# Altium footprint library M3.PcbLib: 3 footprints
Each footprint in its own frame and in the unit in brackets; x right, y up, seen from the top. Pads: shape width x height; smd on the part's side, far side on the other; paste and mask are expansions set on the pad; w line width, h text height; cw(c..) or ccw(c..) is an arc to the next point about the centre after c.
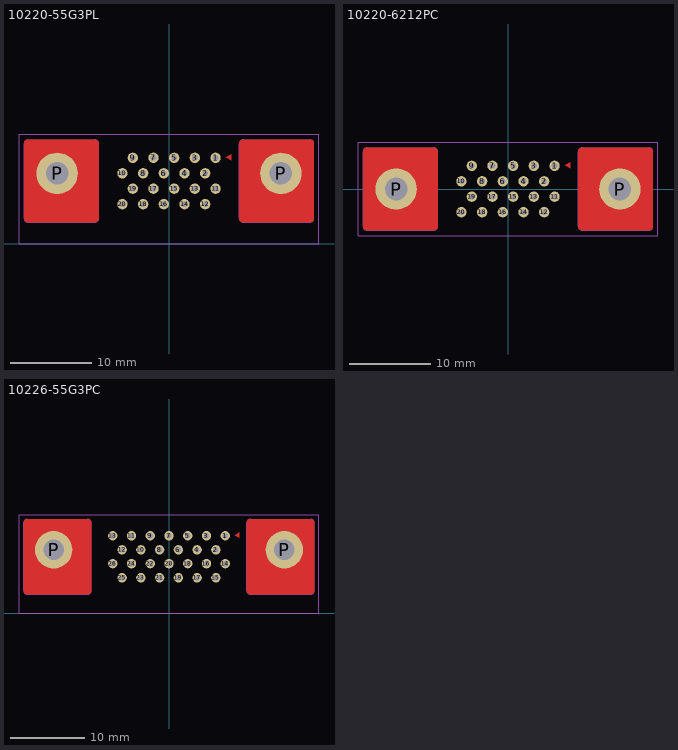
[diagram p0: the footprints below, top view; thin cyan lines are the x and y axes]

## 10220-55G3PL [mil]
pads (22):
  round 50 hole 28: 1(225,414.5) 2(175,339.5) 3(125,414.5) 4(75,339.5) 5(25,414.5) 6(-25,339.5) 7(-75,414.5) 8(-125,339.5) 9(-175,414.5) 10(-225,339.5) 11(225,265.5) 12(175,190.5) 13(125,265.5) 14(75,190.5) 15(25,265.5) 16(-25,190.5) 17(-75,265.5) 18(-125,190.5) 19(-175,265.5) 20(-225,190.5)
  round 200 hole 110: P(-540.5,339.5) P(540.5,339.5)
Top Layer:
  region: -360,102.5 -356.02,102.5 -348.67,105.54 -343.04,111.17 -340,118.52 -340,122.5 -340,482.5 -340,486.48 -343.04,493.83 -348.67,499.46 -356.02,502.5 -360,502.5 -680,502.5 -683.98,502.5 -691.33,499.46 -696.96,493.83 -700,486.48 -700,482.5 -700,122.5 -700,118.52 -696.96,111.17 -691.33,105.54 -683.98,102.5 -680,102.5
  region: 360,502.5 356.02,502.5 348.67,499.46 343.04,493.83 340,486.48 340,482.5 340,122.5 340,118.52 343.04,111.17 348.67,105.54 356.02,102.5 360,102.5 680,102.5 683.98,102.5 691.33,105.54 696.96,111.17 700,118.52 700,122.5 700,482.5 700,486.48 696.96,493.83 691.33,499.46 683.98,502.5 680,502.5
  region: 275,417.5 300,432.5 300,402.5
Top Courtyard:
  lines w1: -725,0 -725,527.5 725,527.5 725,0 -725,0
Top Component Outline:
  lines w1: -700,122.5 ccw(c-680,122.5) -680,102.5 -360,102.5 ccw(c-360,122.5) -340,122.5 -340,482.5 ccw(c-360,482.5) -360,502.5 -680,502.5 ccw(c-680,482.5) -700,482.5 -700,122.5 ; 340,122.5 ccw(c360,122.5) 360,102.5 680,102.5 ccw(c680,122.5) 700,122.5 700,482.5 ccw(c680,482.5) 680,502.5 360,502.5 ccw(c360,482.5) 340,482.5 340,122.5
Multi-Layer:
  pour cut-out: -175,452.5 225,452.5 228.94,452.5 236.67,450.96 243.95,447.95 250.5,443.57 256.07,438 260.45,431.45 263.46,424.17 265,416.44 265,412.5 265,242.5 265,233.64 261.54,216.25 254.76,199.87 244.91,185.13 232.37,172.59 217.63,162.74 201.25,155.96 183.86,152.5 175,152.5 -230,152.5 -233.45,152.5 -240.21,153.85 -246.58,156.48 -252.31,160.31 -257.19,165.19 -261.02,170.92 -263.65,177.29 -265,184.05 -265,187.5 -265,362.5 -265,371.36 -261.54,388.75 -254.76,405.13 -244.91,419.87 -232.37,432.41 -217.63,442.26 -201.25,449.04 -183.86,452.5
3D body "10220-55x3xx.stp": height 370, standoff -110, extent -655,-210 655,450

## 10220-6212PC [mil]
pads (22):
  round 50 hole 28: 1(225,112) 2(175,37) 3(125,112) 4(75,37) 5(25,112) 6(-25,37) 7(-75,112) 8(-125,37) 9(-175,112) 10(-225,37) 11(225,-37) 12(175,-112) 13(125,-37) 14(75,-112) 15(25,-37) 16(-25,-112) 17(-75,-37) 18(-125,-112) 19(-175,-37) 20(-225,-112)
  round 200 hole 110: P(-540.5,0) P(540.5,0)
Top Layer:
  region: 275,115 300,130 300,100
  region: 360,200 356.02,200 348.67,196.96 343.04,191.33 340,183.98 340,180 340,-180 340,-183.98 343.04,-191.33 348.67,-196.96 356.02,-200 360,-200 680,-200 683.98,-200 691.33,-196.96 696.96,-191.33 700,-183.98 700,-180 700,180 700,183.98 696.96,191.33 691.33,196.96 683.98,200 680,200
  region: -360,-200 -356.02,-200 -348.67,-196.96 -343.04,-191.33 -340,-183.98 -340,-180 -340,180 -340,183.98 -343.04,191.33 -348.67,196.96 -356.02,200 -360,200 -680,200 -683.98,200 -691.33,196.96 -696.96,191.33 -700,183.98 -700,180 -700,-180 -700,-183.98 -696.96,-191.33 -691.33,-196.96 -683.98,-200 -680,-200
Top Courtyard:
  lines w1: -725,-225 725,-225 725,225 -725,225 -725,-225
Top Component Outline:
  lines w1: -700,-180 ccw(c-680,-180) -680,-200 -360,-200 ccw(c-360,-180) -340,-180 -340,180 ccw(c-360,180) -360,200 -680,200 ccw(c-680,180) -700,180 -700,-180 ; 340,-180 ccw(c360,-180) 360,-200 680,-200 ccw(c680,-180) 700,-180 700,180 ccw(c680,180) 680,200 360,200 ccw(c360,180) 340,180 340,-180
Multi-Layer:
  pour cut-out: -175,150 225,150 228.94,150 236.67,148.46 243.95,145.45 250.5,141.07 256.07,135.5 260.45,128.95 263.46,121.67 265,113.94 265,110 265,-60 265,-68.86 261.54,-86.25 254.76,-102.63 244.91,-117.37 232.37,-129.91 217.63,-139.76 201.25,-146.54 183.86,-150 175,-150 -230,-150 -233.45,-150 -240.21,-148.65 -246.58,-146.02 -252.31,-142.19 -257.19,-137.31 -261.02,-131.58 -263.65,-125.21 -265,-118.45 -265,-115 -265,60 -265,68.86 -261.54,86.25 -254.76,102.63 -244.91,117.37 -232.37,129.91 -217.63,139.76 -201.25,146.54 -183.86,150
3D body "c-2-5175887-2-o-3d.stp": height 421.26, standoff -129.92, extent -656.5,-179.13 656.5,179.13

## 10226-55G3PC [mil]
pads (28):
  round 50 hole 28: 1(300,414.5) 2(250,339.5) 3(200,414.5) 4(150,339.5) 5(100,414.5) 6(50,339.5) 7(0,414.5) 8(-50,339.5) 9(-100,414.5) 10(-150,339.5) 11(-200,414.5) 12(-250,339.5) 13(-300,414.5) 14(300,265.5) 15(250,190.5) 16(200,265.5) 17(150,190.5) 18(100,265.5) 19(50,190.5) 20(0,265.5) 21(-50,190.5) 22(-100,265.5) 23(-150,190.5) 24(-200,265.5) 25(-250,190.5) 26(-300,265.5)
  round 200 hole 110: P(-615.5,339.5) P(615.5,339.5)
Top Layer:
  region: 350,417.5 375,432.5 375,402.5
  region: 435,502.5 431.02,502.5 423.67,499.46 418.04,493.83 415,486.48 415,482.5 415,122.5 415,118.52 418.04,111.17 423.67,105.54 431.02,102.5 435,102.5 755,102.5 758.98,102.5 766.33,105.54 771.96,111.17 775,118.52 775,122.5 775,482.5 775,486.48 771.96,493.83 766.33,499.46 758.98,502.5 755,502.5
  region: -435,102.5 -431.02,102.5 -423.67,105.54 -418.04,111.17 -415,118.52 -415,122.5 -415,482.5 -415,486.48 -418.04,493.83 -423.67,499.46 -431.02,502.5 -435,502.5 -755,502.5 -758.98,502.5 -766.33,499.46 -771.96,493.83 -775,486.48 -775,482.5 -775,122.5 -775,118.52 -771.96,111.17 -766.33,105.54 -758.98,102.5 -755,102.5
Top Courtyard:
  lines w1: -800,0 800,0 800,527.5 -800,527.5 -800,0
Top Component Outline:
  lines w1: -775,122.5 ccw(c-755,122.5) -755,102.5 -435,102.5 ccw(c-435,122.5) -415,122.5 -415,482.5 ccw(c-435,482.5) -435,502.5 -755,502.5 ccw(c-755,482.5) -775,482.5 -775,122.5 ; 415,122.5 ccw(c435,122.5) 435,102.5 755,102.5 ccw(c755,122.5) 775,122.5 775,482.5 ccw(c755,482.5) 755,502.5 435,502.5 ccw(c435,482.5) 415,482.5 415,122.5
Multi-Layer:
  pour cut-out: 300,452.5 -300,452.5 -303.94,452.5 -311.67,450.96 -318.95,447.95 -325.5,443.57 -331.07,438 -335.45,431.45 -338.46,424.17 -340,416.44 -340,412.5 -340,242.5 -340,233.64 -336.54,216.25 -329.76,199.87 -319.91,185.13 -307.37,172.59 -292.63,162.74 -276.25,155.96 -258.86,152.5 -250,152.5 250,152.5 258.86,152.5 276.25,155.96 292.63,162.74 307.37,172.59 319.91,185.13 329.76,199.87 336.54,216.25 340,233.64 340,242.5 340,412.5 340,416.44 338.46,424.17 335.45,431.45 331.07,438 325.5,443.57 318.95,447.95 311.67,450.96 303.94,452.5
3D body "10226-55x3xx.stp": height 370, standoff -110, extent -730,-210 730,450